# Altium schematic symbol library PMOS.Schlib: 1 symbol
Pins are listed as number, name and electrical type; pins without a type are passive.

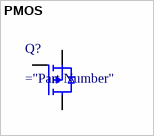
[diagram p0: symbol PMOS]

## PMOS
designator Q?
P-Kanal Mosfet
pins: D, G, S